# Altium footprint library nir_usb.PcbLib: 13 footprints
Each footprint in its own frame and in the unit in brackets; x right, y up, seen from the top. Pads: shape width x height; smd on the part's side, far side on the other; paste and mask are expansions set on the pad; w line width, h text height; cw(c..) or ccw(c..) is an arc to the next point about the centre after c.
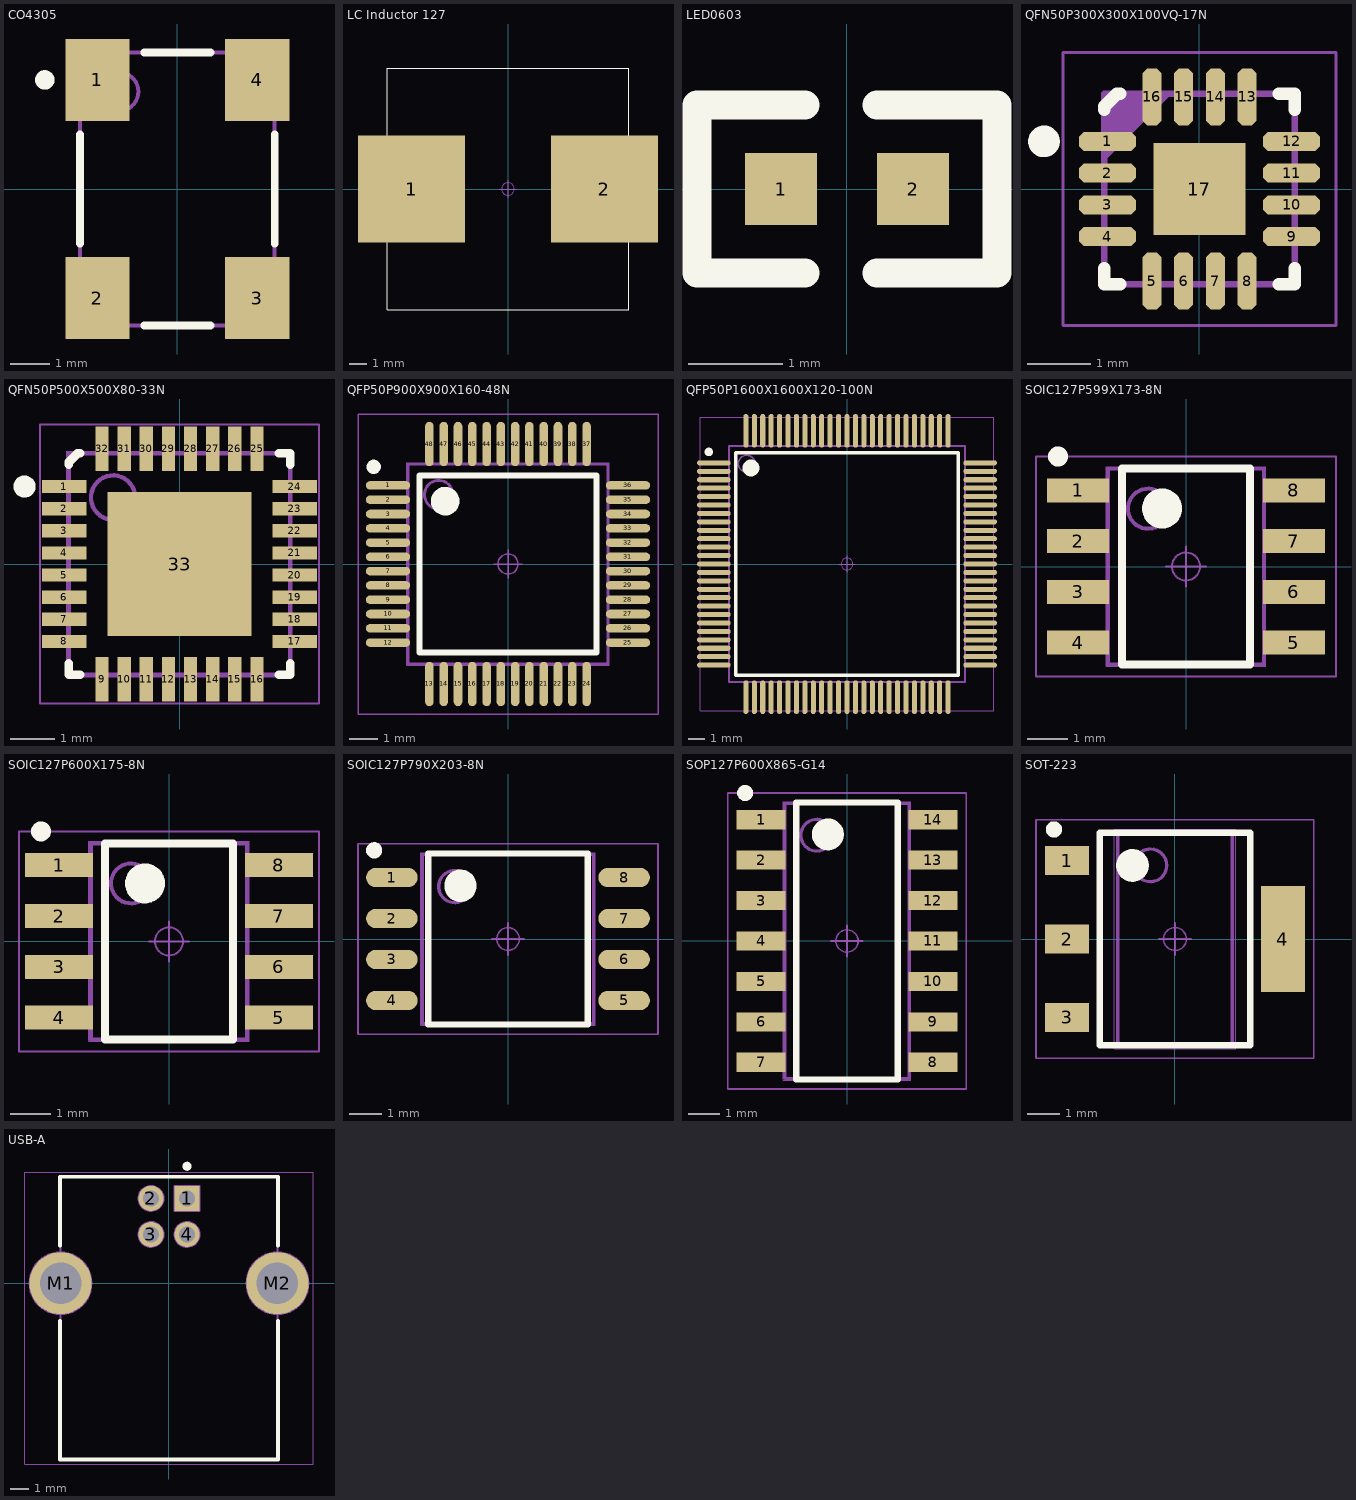
[diagram p0: the footprints below, top view; thin cyan lines are the x and y axes]

## CO4305 [mm]
height 1.8
pads (4):
  rect 1.65x2.1 smd: 1(-2.05,2.8) 2(-2.05,-2.8) 3(2.05,-2.8) 4(2.05,2.8)
Top Overlay:
  circle w0.25: c-3.4,2.8 r0.125
  lines w0.2: -2.5,-1.4 -2.5,1.4 ; -0.85,-3.5 0.85,-3.5 ; -0.85,3.5 0.85,3.5 ; 2.5,-1.4 2.5,1.4
Mechanical 15:
  circle w0.1: c-1.5,2.5 r0.5
  lines w0.1: -2.5,-3.5 -2.5,3.5 2.5,3.5 2.5,-3.5 -2.5,-3.5
  text "1" at 0.45,-0.164 h0.75

## LC Inductor 127 [mm]
pads (2):
  rect 6x6 smd: 1(-5.4,0) 2(5.4,0)
Top Overlay:
  lines w0.05: -6.75,-6.75 6.75,-6.75 6.75,6.75 -6.75,6.75 -6.75,-6.75
Mechanical 16:
  circle w0.05: c0,0 r0.35
  lines w0.05: -0.5,0 0.5,0 ; 0,-0.5 0,0.5

## LED0603 [mil]
pads (2):
  rect 30x30 smd: 1(-27.4,0) 2(27.6,0)
Top Overlay:
  lines w12: -17.4,-35 -62.4,-35 -62.4,35 -17.4,35 ; 12.6,-35 62.6,-35 62.6,35 12.6,35

## QFN50P300X300X100VQ-17N [mm]
pads (17):
  oct 0.9x0.3 smd mask+0.05: 1(-1.45,0.75) 2(-1.45,0.25) 3(-1.45,-0.25) 4(-1.45,-0.75) 9(1.45,-0.75) 10(1.45,-0.25) 11(1.45,0.25)
  oct 0.3x0.9 smd mask+0.05: 5(-0.75,-1.45) 6(-0.25,-1.45) 7(0.25,-1.45) 8(0.75,-1.45) 13(0.75,1.45) 14(0.25,1.45) 15(-0.25,1.45) 16(-0.75,1.45)
  oct 0.9x0.3 smd paste+0 mask+0.05: 12(1.45,0.75)
  rect 1.45x1.45 smd: 17(0,0)
Top Overlay:
  circle w0.25: c-2.45,0.75 r0.125
  lines w0.2: -1.5,-1.25 -1.5,-1.5 -1.25,-1.5 ; -1.5,1.25 -1.5,1.3 -1.3,1.5 -1.25,1.5 ; 1.25,-1.5 1.5,-1.5 1.5,-1.25 ; 1.25,1.5 1.5,1.5 1.5,1.25
Mechanical 15:
  lines w0.1: -1.5,0.5 -0.5,1.5 ; -1.5,0.6 -0.6,1.5 ; -1.5,0.7 -0.7,1.5 ; -1.5,0.8 -0.8,1.5 ; -1.5,0.9 -0.9,1.5 ; -1.5,1 -1,1.5 ; -1.5,1.1 -1.1,1.5 ; -1.5,1.2 -1.2,1.5 ; -1.5,1.3 -1.3,1.5 ; -1.5,1.4 -1.4,1.5 ; -1.5,-1.5 1.5,-1.5 1.5,1.5 -1.5,1.5 -1.5,-1.5
  text "1" at 0.45,-0.164 h0.75
Mechanical 20:
  circle w0.05: c0,0 r0.35
  lines w0.05: -0.5,0 0.5,0 ; 0,-0.5 0,0.5 ; -2.15,-2.15 2.15,-2.15 2.15,2.15 -2.15,2.15 -2.15,-2.15
Mechanical 21:
  lines w0.001: -1.5,-1.5 1.5,-1.5 1.5,1.5 -1.5,1.5 -1.5,-1.5

## QFN50P500X500X80-33N [mm]
pads (33):
  rect 1x0.3 smd mask+0.05: 1(-2.6,1.75) 2(-2.6,1.25) 3(-2.6,0.75) 4(-2.6,0.25) 5(-2.6,-0.25) 6(-2.6,-0.75) 7(-2.6,-1.25) 8(-2.6,-1.75) 17(2.6,-1.75) 18(2.6,-1.25) 19(2.6,-0.75) 20(2.6,-0.25) 21(2.6,0.25) 22(2.6,0.75) 23(2.6,1.25) 24(2.6,1.75)
  rect 0.3x1 smd mask+0.05: 9(-1.75,-2.6) 10(-1.25,-2.6) 11(-0.75,-2.6) 12(-0.25,-2.6) 13(0.25,-2.6) 14(0.75,-2.6) 15(1.25,-2.6) 16(1.75,-2.6) 25(1.75,2.6) 26(1.25,2.6) 27(0.75,2.6) 28(0.25,2.6) 29(-0.25,2.6) 30(-0.75,2.6) 31(-1.25,2.6) 32(-1.75,2.6)
  rect 3.25x3.25 smd paste-0.595 mask+0.05: 33(0,0)
Top Overlay:
  circle w0.25: c-3.5,1.75 r0.125
  lines w0.2: -2.5,-2.25 -2.5,-2.5 -2.25,-2.5 ; -2.5,2.25 -2.5,2.3 -2.3,2.5 -2.25,2.5 ; 2.25,-2.5 2.5,-2.5 2.5,-2.25 ; 2.25,2.5 2.5,2.5 2.5,2.25
Mechanical 15:
  circle w0.1: c-1.5,1.5 r0.5
  lines w0.1: -2.5,-2.5 2.5,-2.5 2.5,2.5 -2.5,2.5 -2.5,-2.5
  text "1" at 0.45,-0.164 h0.75
Mechanical 20:
  circle w0.05: c0,0 r0.35
  lines w0.05: -0.5,0 0.5,0 ; 0,-0.5 0,0.5 ; -3.15,-3.15 3.15,-3.15 3.15,3.15 -3.15,3.15 -3.15,-3.15
Mechanical 21:
  lines w0.001: -2.55,-2.55 2.55,-2.55 2.55,2.55 -2.55,2.55 -2.55,-2.55

## QFP50P900X900X160-48N [mm]
height 1.6
pads (48):
  oval 1.55x0.3 smd: 1(-4.2,2.75) 2(-4.2,2.25) 3(-4.2,1.75) 4(-4.2,1.25) 5(-4.2,0.75) 6(-4.2,0.25) 7(-4.2,-0.25) 8(-4.2,-0.75) 9(-4.2,-1.25) 10(-4.2,-1.75) 11(-4.2,-2.25) 12(-4.2,-2.75) 25(4.2,-2.75) 26(4.2,-2.25) 27(4.2,-1.75) 28(4.2,-1.25) 29(4.2,-0.75) 30(4.2,-0.25) 31(4.2,0.25) 32(4.2,0.75) 33(4.2,1.25) 34(4.2,1.75) 35(4.2,2.25) 36(4.2,2.75)
  oval 0.3x1.55 smd: 13(-2.75,-4.2) 14(-2.25,-4.2) 15(-1.75,-4.2) 16(-1.25,-4.2) 17(-0.75,-4.2) 18(-0.25,-4.2) 19(0.25,-4.2) 20(0.75,-4.2) 21(1.25,-4.2) 22(1.75,-4.2) 23(2.25,-4.2) 24(2.75,-4.2) 37(2.75,4.2) 38(2.25,4.2) 39(1.75,4.2) 40(1.25,4.2) 41(0.75,4.2) 42(0.25,4.2) 43(-0.25,4.2) 44(-0.75,4.2) 45(-1.25,4.2) 46(-1.75,4.2) 47(-2.25,4.2) 48(-2.75,4.2)
Top Overlay:
  circle w0.25: c-4.7,3.4 r0.125
  circle w0.5: c-2.2,2.2 r0.25
  lines w0.2: -3.1,-3.1 3.1,-3.1 3.1,3.1 -3.1,3.1 -3.1,-3.1
Mechanical 15:
  circle w0.1: c-2.425,2.425 r0.5
  lines w0.1: -3.5,-3.5 3.5,-3.5 3.5,3.5 -3.5,3.5 -3.5,-3.5
  text "1" at 0.45,-0.164 h0.75
Mechanical 20:
  circle w0.05: c0,0 r0.35
  lines w0.05: -0.5,0 0.5,0 ; 0,-0.5 0,0.5 ; -5.25,-5.25 5.25,-5.25 5.25,5.25 -5.25,5.25 -5.25,-5.25
Mechanical 21:
  lines w0.001: -3.55,-3.55 3.55,-3.55 3.55,3.55 -3.55,3.55 -3.55,-3.55

## QFP50P1600X1600X120-100N [mm]
height 1.2
pads (100):
  oval 2x0.3 smd: 1(-7.9,6) 2(-7.9,5.5) 3(-7.9,5) 4(-7.9,4.5) 5(-7.9,4) 6(-7.9,3.5) 7(-7.9,3) 8(-7.9,2.5) 9(-7.9,2) 10(-7.9,1.5) 11(-7.9,1) 12(-7.9,0.5) 13(-7.9,0) 14(-7.9,-0.5) 15(-7.9,-1) 16(-7.9,-1.5) 17(-7.9,-2) 18(-7.9,-2.5) 19(-7.9,-3) 20(-7.9,-3.5) 21(-7.9,-4) 22(-7.9,-4.5) 23(-7.9,-5) 24(-7.9,-5.5) 25(-7.9,-6) 51(7.9,-6) 52(7.9,-5.5) 53(7.9,-5) 54(7.9,-4.5) 55(7.9,-4) 56(7.9,-3.5) 57(7.9,-3) 58(7.9,-2.5) 59(7.9,-2) 60(7.9,-1.5) 61(7.9,-1) 62(7.9,-0.5) 63(7.9,0) 64(7.9,0.5) 65(7.9,1) 66(7.9,1.5) 67(7.9,2) 68(7.9,2.5) 69(7.9,3) 70(7.9,3.5) 71(7.9,4) 72(7.9,4.5) 73(7.9,5) 74(7.9,5.5) 75(7.9,6)
  oval 0.3x2 smd: 26(-6,-7.9) 27(-5.5,-7.9) 28(-5,-7.9) 29(-4.5,-7.9) 30(-4,-7.9) 31(-3.5,-7.9) 32(-3,-7.9) 33(-2.5,-7.9) 34(-2,-7.9) 35(-1.5,-7.9) 36(-1,-7.9) 37(-0.5,-7.9) 38(0,-7.9) 39(0.5,-7.9) 40(1,-7.9) 41(1.5,-7.9) 42(2,-7.9) 43(2.5,-7.9) 44(3,-7.9) 45(3.5,-7.9) 46(4,-7.9) 47(4.5,-7.9) 48(5,-7.9) 49(5.5,-7.9) 50(6,-7.9) 76(6,7.9) 77(5.5,7.9) 78(5,7.9) 79(4.5,7.9) 80(4,7.9) 81(3.5,7.9) 82(3,7.9) 83(2.5,7.9) 84(2,7.9) 85(1.5,7.9) 86(1,7.9) 87(0.5,7.9) 88(0,7.9) 89(-0.5,7.9) 90(-1,7.9) 91(-1.5,7.9) 92(-2,7.9) 93(-2.5,7.9) 94(-3,7.9) 95(-3.5,7.9) 96(-4,7.9) 97(-4.5,7.9) 98(-5,7.9) 99(-5.5,7.9) 100(-6,7.9)
Top Overlay:
  circle w0.25: c-8.2,6.65 r0.125
  circle w0.5: c-5.7,5.7 r0.25
  lines w0.2: -6.6,-6.6 6.6,-6.6 6.6,6.6 -6.6,6.6 -6.6,-6.6
Mechanical 15:
  circle w0.1: c-5.95,5.95 r0.5
  lines w0.1: -7,-7 7,-7 7,7 -7,7 -7,-7
  text "1" at 0.45,-0.164 h0.75
Mechanical 20:
  circle w0.05: c0,0 r0.35
  lines w0.05: -0.5,0 0.5,0 ; 0,-0.5 0,0.5 ; -8.7,-8.7 8.7,-8.7 8.7,8.7 -8.7,8.7 -8.7,-8.7
Mechanical 21:
  lines w0.001: -7,-7 7,-7 7,7 -7,7 -7,-7

## SOIC127P599X173-8N [mm]
height 1.73
pads (8):
  rect 1.55x0.6 smd: 1(-2.7,1.905) 2(-2.7,0.635) 3(-2.7,-0.635) 4(-2.7,-1.905) 5(2.7,-1.905) 6(2.7,-0.635) 7(2.7,0.635) 8(2.7,1.905)
Top Overlay:
  circle w0.25: c-3.2,2.75 r0.125
  circle w0.5: c-0.6,1.45 r0.25
  lines w0.2: -1.6,-2.45 -1.6,2.45 1.6,2.45 1.6,-2.45 -1.6,-2.45
Mechanical 15:
  circle w0.1: c-0.95,1.445 r0.5
  lines w0.1: -1.95,-2.445 -1.95,2.445 1.95,2.445 1.95,-2.445 -1.95,-2.445
  text "1" at 0.45,-0.164 h0.75
Mechanical 20:
  circle w0.05: c0,0 r0.35
  lines w0.05: -0.5,0 0.5,0 ; 0,-0.5 0,0.5 ; -3.75,-2.75 -3.75,2.75 3.75,2.75 3.75,-2.75 -3.75,-2.75
Mechanical 21:
  lines w0.001: -1.995,-2.49 -1.995,2.49 1.995,2.49 1.995,-2.49 -1.995,-2.49

## SOIC127P600X175-8N [mm]
height 1.75
pads (8):
  rect 1.7x0.6 smd: 1(-2.75,1.905) 2(-2.75,0.635) 3(-2.75,-0.635) 4(-2.75,-1.905) 5(2.75,-1.905) 6(2.75,-0.635) 7(2.75,0.635) 8(2.75,1.905)
Top Overlay:
  circle w0.25: c-3.2,2.75 r0.125
  circle w0.5: c-0.6,1.45 r0.25
  lines w0.2: -1.6,-2.45 -1.6,2.45 1.6,2.45 1.6,-2.45 -1.6,-2.45
Mechanical 15:
  circle w0.1: c-0.95,1.45 r0.5
  lines w0.1: -1.95,-2.45 -1.95,2.45 1.95,2.45 1.95,-2.45 -1.95,-2.45
  text "1" at 0.45,-0.164 h0.75
Mechanical 20:
  circle w0.05: c0,0 r0.35
  lines w0.05: -0.5,0 0.5,0 ; 0,-0.5 0,0.5 ; -3.75,-2.75 -3.75,2.75 3.75,2.75 3.75,-2.75 -3.75,-2.75
Mechanical 21:
  lines w0.001: -2,-2.5 -2,2.5 2,2.5 2,-2.5 -2,-2.5

## SOIC127P790X203-8N [mm]
pads (8):
  oval 1.6x0.6 smd: 1(-3.6,1.905) 2(-3.6,0.635) 3(-3.6,-0.635) 4(-3.6,-1.905) 5(3.6,-1.905) 6(3.6,-0.635) 7(3.6,0.635) 8(3.6,1.905)
Top Overlay:
  circle w0.25: c-4.15,2.75 r0.125
  circle w0.5: c-1.475,1.65 r0.25
  lines w0.2: -2.475,-2.65 -2.475,2.65 2.475,2.65 2.475,-2.65 -2.475,-2.65
Mechanical 15:
  circle w0.1: c-1.65,1.625 r0.5
  lines w0.1: -2.65,-2.625 -2.65,2.625 2.65,2.625 2.65,-2.625 -2.65,-2.625
  text "1" at 0.45,-0.164 h0.75
Mechanical 20:
  circle w0.05: c0,0 r0.35
  lines w0.05: -0.5,0 0.5,0 ; 0,-0.5 0,0.5 ; -4.65,-2.95 -4.65,2.95 4.65,2.95 4.65,-2.95 -4.65,-2.95
Mechanical 21:
  lines w0.001: -2.7,-2.675 -2.7,2.675 2.7,2.675 2.7,-2.675 -2.7,-2.675

## SOP127P600X865-G14 [mm]
height 1.75
pads (14):
  rect 1.55x0.6 smd: 1(-2.7,3.81) 2(-2.7,2.54) 3(-2.7,1.27) 4(-2.7,0) 5(-2.7,-1.27) 6(-2.7,-2.54) 7(-2.7,-3.81) 8(2.7,-3.81) 9(2.7,-2.54) 10(2.7,-1.27) 11(2.7,0) 12(2.7,1.27) 13(2.7,2.54) 14(2.7,3.81)
Top Overlay:
  circle w0.5: c-0.6,3.35 r0.25
  circle w0.25: c-3.2,4.65 r0.125
  lines w0.2: -1.6,-4.35 1.6,-4.35 1.6,4.35 -1.6,4.35 -1.6,-4.35
Mechanical 15:
  circle w0.1: c-0.95,3.325 r0.5
  lines w0.1: -1.95,-4.325 1.95,-4.325 1.95,4.325 -1.95,4.325 -1.95,-4.325
  text "1" at 0.45,-0.164 h0.75
Mechanical 20:
  circle w0.05: c0,0 r0.35
  lines w0.05: -0.504,0 0.496,0 ; 0,-0.5 0,0.5 ; -3.75,-4.65 3.75,-4.65 3.75,4.65 -3.75,4.65 -3.75,-4.65
Mechanical 21:
  lines w0.001: -2,-4.375 2,-4.375 2,4.375 -2,4.375 -2,-4.375

## SOT-223 [mm]
pads (4):
  rect 1.35x0.9 smd: 1(-3.295,2.4) 2(-3.295,0) 3(-3.295,-2.4)
  rect 1.35x3.25 smd: 4(3.305,0)
Top Overlay:
  circle w0.5: c-1.295,2.25 r0.25
  circle w0.25: c-3.695,3.35 r0.125
  lines w0.2: -2.295,-3.25 2.305,-3.25 2.305,3.25 -2.295,3.25 -2.295,-3.25
Mechanical 15:
  circle w0.1: c-0.747,2.252 r0.5
  lines w0.1: -1.747,-3.252 1.757,-3.252 1.757,3.252 -1.747,3.252 -1.747,-3.252
  text "1" at 0.455,-0.164 h0.75
Mechanical 20:
  circle w0.05: c0.005,0 r0.35
  lines w0.05: -0.495,0 0.505,0 ; 0.005,-0.5 0.005,0.5 ; -4.245,-3.65 4.255,-3.65 4.255,3.65 -4.245,3.65 -4.245,-3.65
Mechanical 21:
  lines w0.001: -1.85,-3.355 1.86,-3.355 1.86,3.355 -1.85,3.355 -1.85,-3.355

## USB-A [mm]
pads (6):
  rect 1.4x1.4 / inner round 1.4 / far side rect 1.4x1.4 hole 0.9: 1(1,4.71)
  round 1.4 hole 0.9: 2(-1,4.71) 3(-1,2.71) 4(1,2.71)
  round 3.45 hole 2.3: M1(-6.02,0) M2(6.02,0)
Top Overlay:
  circle w0.25: c1,6.495 r0.125
  lines w0.2: -6.05,-2.075 -6.05,-9.78 6.05,-9.78 6.05,-2.075 ; -6.05,2.075 -6.05,5.92 6.05,5.92 6.05,2.075
Mechanical 15:
  circle w0.1: c6.02,0 r1.725
  circle w0.1: c-6.02,0 r1.725
  circle w0.1: c1,2.71 r0.7
  circle w0.1: c-1,2.71 r0.7
  circle w0.1: c-1,4.71 r0.7
  lines w0.1: -6.02,-9.78 -6.02,5.92 6.02,5.92 6.02,-9.78 -6.02,-9.78 ; 0.3,4.01 1.7,4.01 1.7,5.41 0.3,5.41 0.3,4.01
  text "1" at 1.45,4.546 h0.75
Mechanical 20:
  circle w0.05: c1,4.71 r0.35
  lines w0.05: 0.5,4.71 1.5,4.71 ; 1,4.21 1,5.21 ; -8,-10.03 -8,6.17 8,6.17 8,-10.03 -8,-10.03
Mechanical 21:
  lines w0.001: -6.02,-9.78 -6.02,5.92 6.02,5.92 6.02,-9.78 -6.02,-9.78